# Altium schematic symbol library mySchLib.SchLib: 1 symbol
Pins are listed as number, name and electrical type; pins without a type are passive.

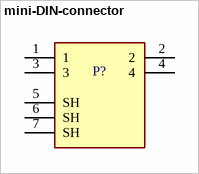
[diagram p0: symbol mini-DIN-connector]

## mini-DIN-connector
designator P?  (value not drawn)
https://dk.rs-online.com/web/p/din-stik/1644205?gb=s
footprint TE_5749181-1
pins: 1, 2, 3, 4, 5 SH, 6 SH, 7 SH